# Altium footprint library 20SVPF56MX.PcbLib: 1 footprints
Each footprint in its own frame and in the unit in brackets; x right, y up, seen from the top. Pads: shape width x height; smd on the part's side, far side on the other; paste and mask are expansions set on the pad; w line width, h text height; cw(c..) or ccw(c..) is an arc to the next point about the centre after c.
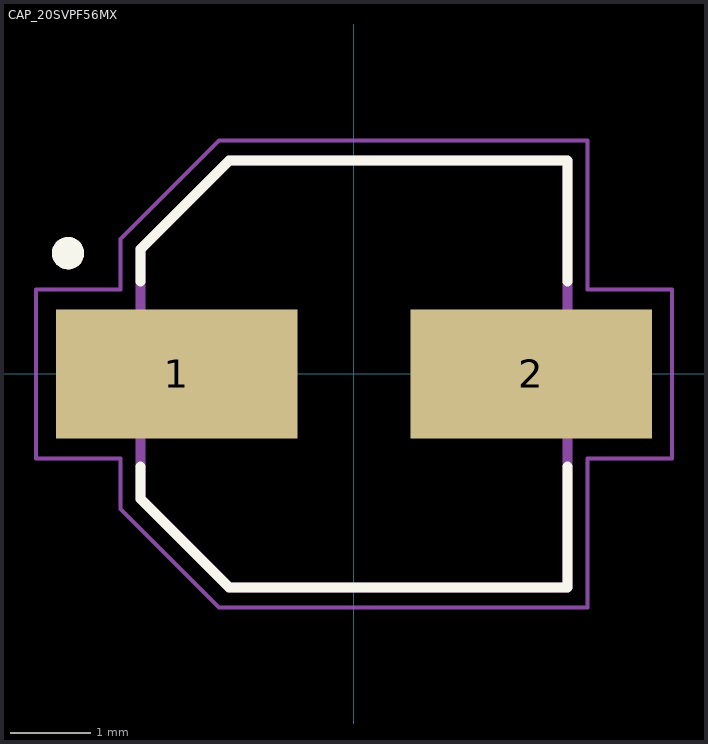
[diagram p0: the footprint, top view; thin cyan lines are the x and y axes]

## CAP_20SVPF56MX [mm]
pads (2):
  rect 3x1.6 smd: 1(-2.2,0) 2(2.2,0)
Top Overlay:
  circle w0.2: c-3.55,1.5 r0.1
  lines w0.127: -2.65,-1.15 -2.65,-1.55 -1.55,-2.65 2.65,-2.65 2.65,-1.15 ; -2.65,1.15 -2.65,1.55 -1.55,2.65 2.65,2.65 2.65,1.15
Mechanical 13:
  circle w0.2: c-3.55,1.5 r0.1
  lines w0.127: -2.65,-1.55 -2.65,1.55 -1.55,2.65 2.65,2.65 2.65,-2.65 -1.55,-2.65 -2.65,-1.55
Mechanical 15:
  lines w0.05: -3.95,-1.05 -3.95,1.05 -2.9,1.05 -2.9,1.675 -1.675,2.9 2.9,2.9 2.9,1.05 3.95,1.05 3.95,-1.05 2.9,-1.05 2.9,-2.9 -1.675,-2.9 -2.9,-1.675 -2.9,-1.05 -3.95,-1.05
3D body "step_temp.STEP": height 5.9, standoff 0, extent -3,-2.65 3,2.65